# EAGLE library part SHIFTER-40109 (library p.peter-regulators)
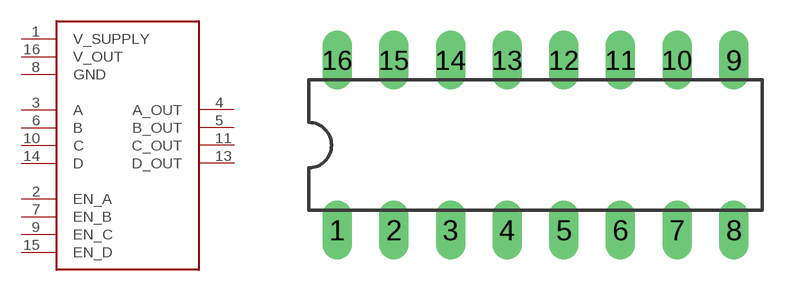
[diagram p0: symbol with the pads of DIL16; footprint DIL16]

Designator prefix -

## SHIFTER-40109  [DIL16]
1  V_SUPPLY
2  EN_A
3  A
4  A_OUT
5  B_OUT
6  B
7  EN_B
8  GND
9  EN_C
10  C
11  C_OUT
13  D_OUT
14  D
15  EN_D
16  V_OUT

## Footprint DIL16 (pad centres in mm)
Dual In Line Package
drill 0.813 long: 1 -8.89,-3.81; 2 -6.35,-3.81; 3 -3.81,-3.81; 4 -1.27,-3.81; 5 1.27,-3.81; 6 3.81,-3.81; 7 6.35,-3.81; 8 8.89,-3.81; 9 8.89,3.81; 10 6.35,3.81; 11 3.81,3.81; 12 1.27,3.81; 13 -1.27,3.81; 14 -3.81,3.81; 15 -6.35,3.81; 16 -8.89,3.81